# Altium footprint library TSOP-48.PcbLib: 1 footprints
Each footprint in its own frame and in the unit in brackets; x right, y up, seen from the top. Pads: shape width x height; smd on the part's side, far side on the other; paste and mask are expansions set on the pad; w line width, h text height; cw(c..) or ccw(c..) is an arc to the next point about the centre after c.
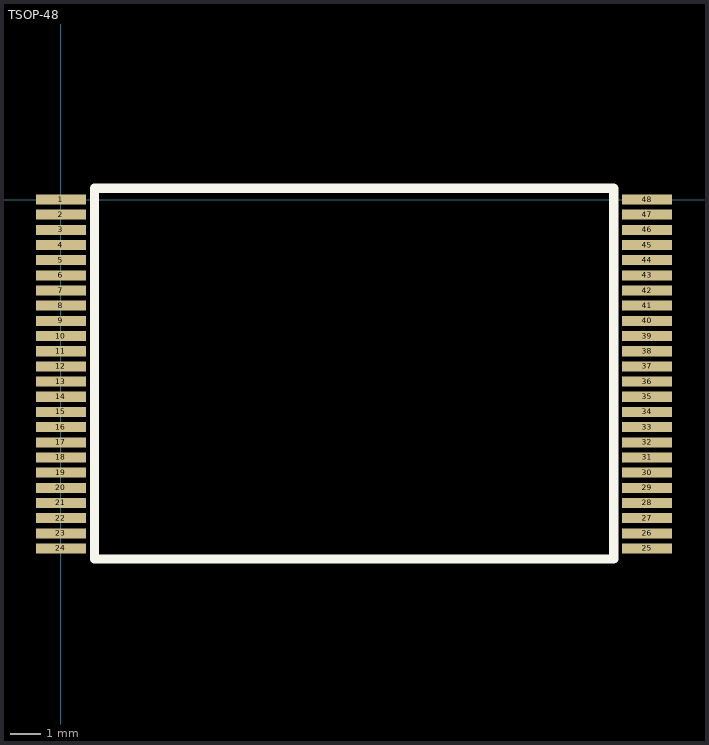
[diagram p0: the footprint, top view; thin cyan lines are the x and y axes]

## TSOP-48 [mil]
height 80
pads (48):
  rect 65x13 smd: 1(0,0) 2(0,-19.68) 3(0,-39.37) 4(0,-59.06) 5(0,-78.74) 6(0,-98.43) 7(0,-118.11) 8(0,-137.8) 9(0,-157.48) 10(0,-177.17) 11(0,-196.85) 12(0,-216.54) 13(0,-236.22) 14(0,-255.91) 15(0,-275.59) 16(0,-295.28) 17(0,-314.96) 18(0,-334.65) 19(0,-354.33) 20(0,-374.02) 21(0,-393.7) 22(0,-413.39) 23(0,-433.07) 24(0,-452.76) 25(760.71,-452.76) 26(760.71,-433.07) 27(760.71,-413.39) 28(760.71,-393.7) 29(760.71,-374.02) 30(760.71,-354.33) 31(760.71,-334.65) 32(760.71,-314.96) 33(760.71,-295.28) 34(760.71,-275.59) 35(760.71,-255.91) 36(760.71,-236.22) 37(760.71,-216.54) 38(760.71,-196.85) 39(760.71,-177.17) 40(760.71,-157.48) 41(760.71,-137.8) 42(760.71,-118.11) 43(760.71,-98.43) 44(760.71,-78.74) 45(760.71,-59.06) 46(760.71,-39.37) 47(760.71,-19.68) 48(760.71,0)
TopOverlay:
  lines w12: 43.52,-466.3 717.52,-466.3 717.52,14.7 43.52,14.7 43.52,-466.3
  text "." at 74.52,-24.3 h80
3D body: height 43.47, standoff 0.53, extent -11.89,-462.67 775.64,9.77